# Altium footprint library DIODES PTH.PcbLib: 160 footprints (part 6 of 10)
Each footprint in its own frame and in the unit in brackets; x right, y up, seen from the top. Pads: shape width x height; smd on the part's side, far side on the other; paste and mask are expansions set on the pad; w line width, h text height; cw(c..) or ccw(c..) is an arc to the next point about the centre after c.
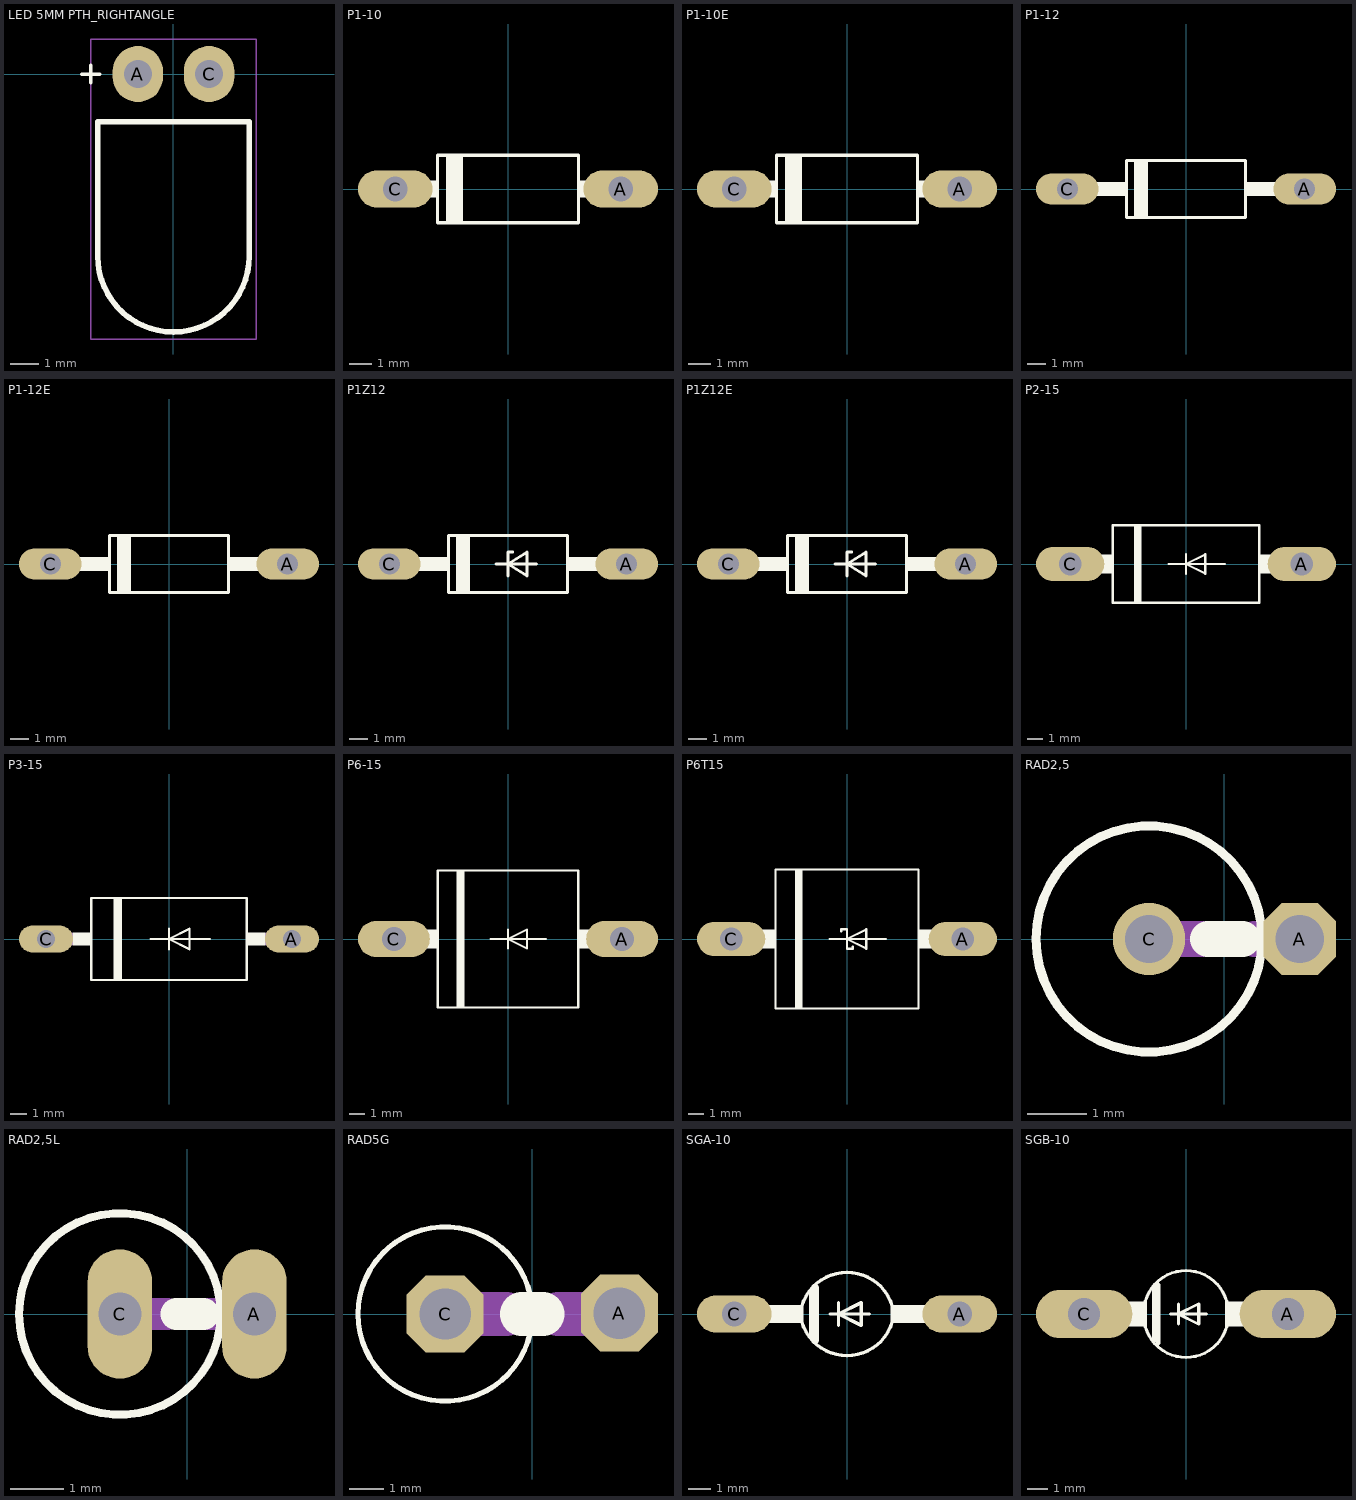
[diagram p5: the footprints below, top view; thin cyan lines are the x and y axes]

## LED 5MM PTH_RIGHTANGLE [mm]
pads (2):
  oval 1.8x2 hole 1 mask+0.14: A(-1.27,0) C(1.27,0)
Top Overlay:
  lines w0.127: -3.267,0 -2.632,0 ; -2.95,-0.318 -2.95,0.318
  lines w0.2: -2.7,-6.5 ccw(c0,-6.5) 2.7,-6.5 2.7,-1.7 -2.7,-1.7 -2.7,-6.5
Mechanical 15:
  lines w0.05: -2.95,-9.45 -2.95,1.25 2.95,1.25 2.95,-9.45 -2.95,-9.45
3D body "5mm led 90 graden.stp": height 5.69, standoff -25.35, extent -2.7,-9.2 2.7,0.4

## P1-10 [mil]
pads (2):
  oval 132x66 hole 44: A(200,0) C(-200,0)
Top Overlay:
  rectangle: 125,-15 155,15
  rectangle: -155,-15 -125,15
  rectangle: -110,-60 -80,60
  lines w6: -125,-60 -125,60 125,60 125,-60 -125,-60
Mechanical 16:
  lines w30: -200,0 -160,0 ; 160,0 200,0

## P1-10E [mil]
pads (2):
  oval 132x66 hole 44: A(200,0) C(-200,0)
Top Overlay:
  rectangle: -110,-60 -80,60
  rectangle: 125,-15 145,15
  rectangle: -145,-15 -125,15
  lines w6: -125,-60 125,-60 125,60 -125,60 -125,-60
Mechanical 16:
  lines w30: -200,0 -150,0 ; 150,0 200,0

## P1-12 [mil]
pads (2):
  oval 132x66 hole 44: A(250,0) C(-250,0)
Top Overlay:
  rectangle: -110,-60 -80,60
  rectangle: 125,-15 205,15
  rectangle: -205,-15 -125,15
  lines w6: -125,-60 125,-60 125,60 -125,60 -125,-60
Mechanical 16:
  lines w30: -250,0 -210,0 ; 210,0 250,0

## P1-12E [mil]
pads (2):
  oval 132x66 hole 44: A(250,0) C(-250,0)
Top Overlay:
  rectangle: -195,-15 -125,15
  rectangle: 125,-15 195,15
  rectangle: -110,-60 -80,60
  lines w6: -125,-60 -125,60 125,60 125,-60 -125,-60
Mechanical 16:
  lines w30: -250,0 -200,0 ; 200,0 250,0

## P1Z12 [mil]
pads (2):
  oval 132x66 hole 44: A(250,0) C(-250,0)
Top Overlay:
  rectangle: -110,-60 -80,60
  rectangle: 125,-15 205,15
  rectangle: -205,-15 -125,15
  lines w6: -25,0 0,0 ; 0,-25 0,0 ; 10,25 0,25 0,0 ; 60,0 0,0 ; 0,0 40,-25 40,25 0,0 ; -125,-60 125,-60 125,60 -125,60 -125,-60
Mechanical 16:
  lines w30: -250,0 -210,0 ; 210,0 250,0

## P1Z12E [mil]
pads (2):
  oval 132x66 hole 44: A(250,0) C(-250,0)
Top Overlay:
  rectangle: -195,-15 -125,15
  rectangle: 125,-15 195,15
  rectangle: -110,-60 -80,60
  lines w6: -25,0 0,0 ; 0,-25 0,0 ; 10,25 0,25 0,0 ; 60,0 0,0 ; 0,0 40,25 40,-25 0,0 ; -125,-60 -125,60 125,60 125,-60 -125,-60
Mechanical 16:
  lines w30: -250,0 -200,0 ; 200,0 250,0

## P2-15 [mil]
pads (2):
  oval 177x88.5 hole 59: A(300,0) C(-300,0)
Top Overlay:
  rectangle: -235,-25 -190,25
  rectangle: 190,-25 235,25
  rectangle: -135,-100 -115,100
  lines w6: -45,0 0,0 ; 0,-25 0,0 ; 0,25 0,0 ; 100,0 0,0 ; 0,0 50,-25 50,25 0,0 ; -190,-100 190,-100 190,100 -190,100 -190,-100
Mechanical 16:
  lines w50: -300,0 -245,0 ; 245,0 300,0

## P3-15 [mil]
pads (2):
  oval 132x66 hole 44: A(300,0) C(-300,0)
Top Overlay:
  rectangle: -235,-16 -190,16
  rectangle: 190,-16 235,16
  rectangle: -135,-100 -115,100
  lines w6: -45,0 0,0 ; 0,-25 0,0 ; 0,25 0,0 ; 100,0 0,0 ; 0,0 50,-25 50,25 0,0 ; -190,-100 190,-100 190,100 -190,100 -190,-100
Mechanical 16:
  lines w32: -300,0 -240,0 ; 240,0 300,0

## P6-15 [mil]
pads (2):
  oval 189x94.5 hole 63: A(300,0) C(-300,0)
Top Overlay:
  rectangle: -235,-25 -185,25
  rectangle: 185,-25 235,25
  rectangle: -135,-180 -115,180
  lines w6: -45,0 0,0 ; 0,-25 0,0 ; 0,25 0,0 ; 100,0 0,0 ; 0,0 50,-25 50,25 0,0 ; -185,-180 185,-180 185,180 -185,180 -185,-180
Mechanical 16:
  lines w50: -300,0 -245,0 ; 245,0 300,0

## P6T15 [mil]
pads (2):
  oval 177x88.5 hole 59: A(300,0) C(-300,0)
Top Overlay:
  rectangle: -235,-25 -185,25
  rectangle: 185,-25 235,25
  rectangle: -135,-180 -115,180
  lines w6: -45,0 0,0 ; -15,20 -15,25 0,25 0,0 ; 15,-20 15,-25 0,-25 0,0 ; 100,0 0,0 ; 0,0 50,-25 50,25 0,0 ; -185,-180 185,-180 185,180 -185,180 -185,-180
Mechanical 16:
  lines w50: -300,0 -245,0 ; 245,0 300,0

## RAD2,5 [mil]
pads (2):
  oct 48x48 hole 32: A(50,0)
  round 48 hole 32: C(-50,0)
Top Overlay:
  circle w6: c-50,0 r75
  lines w24: -11,0 12,0
Mechanical 16:
  lines w24: -50,0 -15,0 ; 20,0 50,0

## RAD2,5L [mil]
pads (2):
  oval 48x96 hole 32: A(50,0) C(-50,0)
Top Overlay:
  circle w6: c-50,0 r75
  lines w24: -8,0 12,0
Mechanical 16:
  lines w24: -50,0 -15,0 ; 15,0 50,0

## RAD5G [mil]
pads (2):
  oct 88.5x88.5 hole 59: A(100,1) C(-100,0)
Top Overlay:
  circle w6: c-100,0 r100
  lines w50: -12,0 12,0
Mechanical 16:
  lines w50: -100,0 -30,0 ; 30,0 100,0

## SGA-10 [mil]
pads (2):
  oval 132x66 hole 44: A(200,0) C(-200,0)
Top Overlay:
  rectangle: 80,-16 152,16
  rectangle: -152,-16 -80,16
  lines w6: -30,0 -15,0 ; -15,-20 -15,0 ; -15,20 -15,0 ; 40,0 -15,0 ; -15,0 25,-20 25,20 -15,0 ; -80,-15 ccw(c0,10) 80,-15 80,15 ccw(c0,-10) -80,15 -80,-15
  lines w10: -62,-40 -62,41 ; -55,-47 -55,47
Mechanical 16:
  lines w32: -200,0 -125,0 ; 125,0 200,0

## SGB-10 [mil]
pads (2):
  oval 189x94.5 hole 63: A(200,0) C(-200,0)
Top Overlay:
  rectangle: 80,-25 130,25
  rectangle: -130,-25 -80,25
  lines w6: -30,0 -15,0 ; -15,-20 -15,0 ; -15,20 -15,0 ; 40,0 -15,0 ; -15,0 25,20 25,-20 -15,0 ; -80,-25 ccw(c0,-2) 80,-25 80,25 ccw(c0,2) -80,25 -80,-25
  lines w10: -62,-50 -62,51 ; -55,-57 -55,57
Mechanical 16:
  lines w50: -200,0 -125,0 ; 125,0 200,0